# Altium schematic symbol library MCU.SchLib: 15 symbols
Pins are listed as number, name and electrical type; pins without a type are passive.

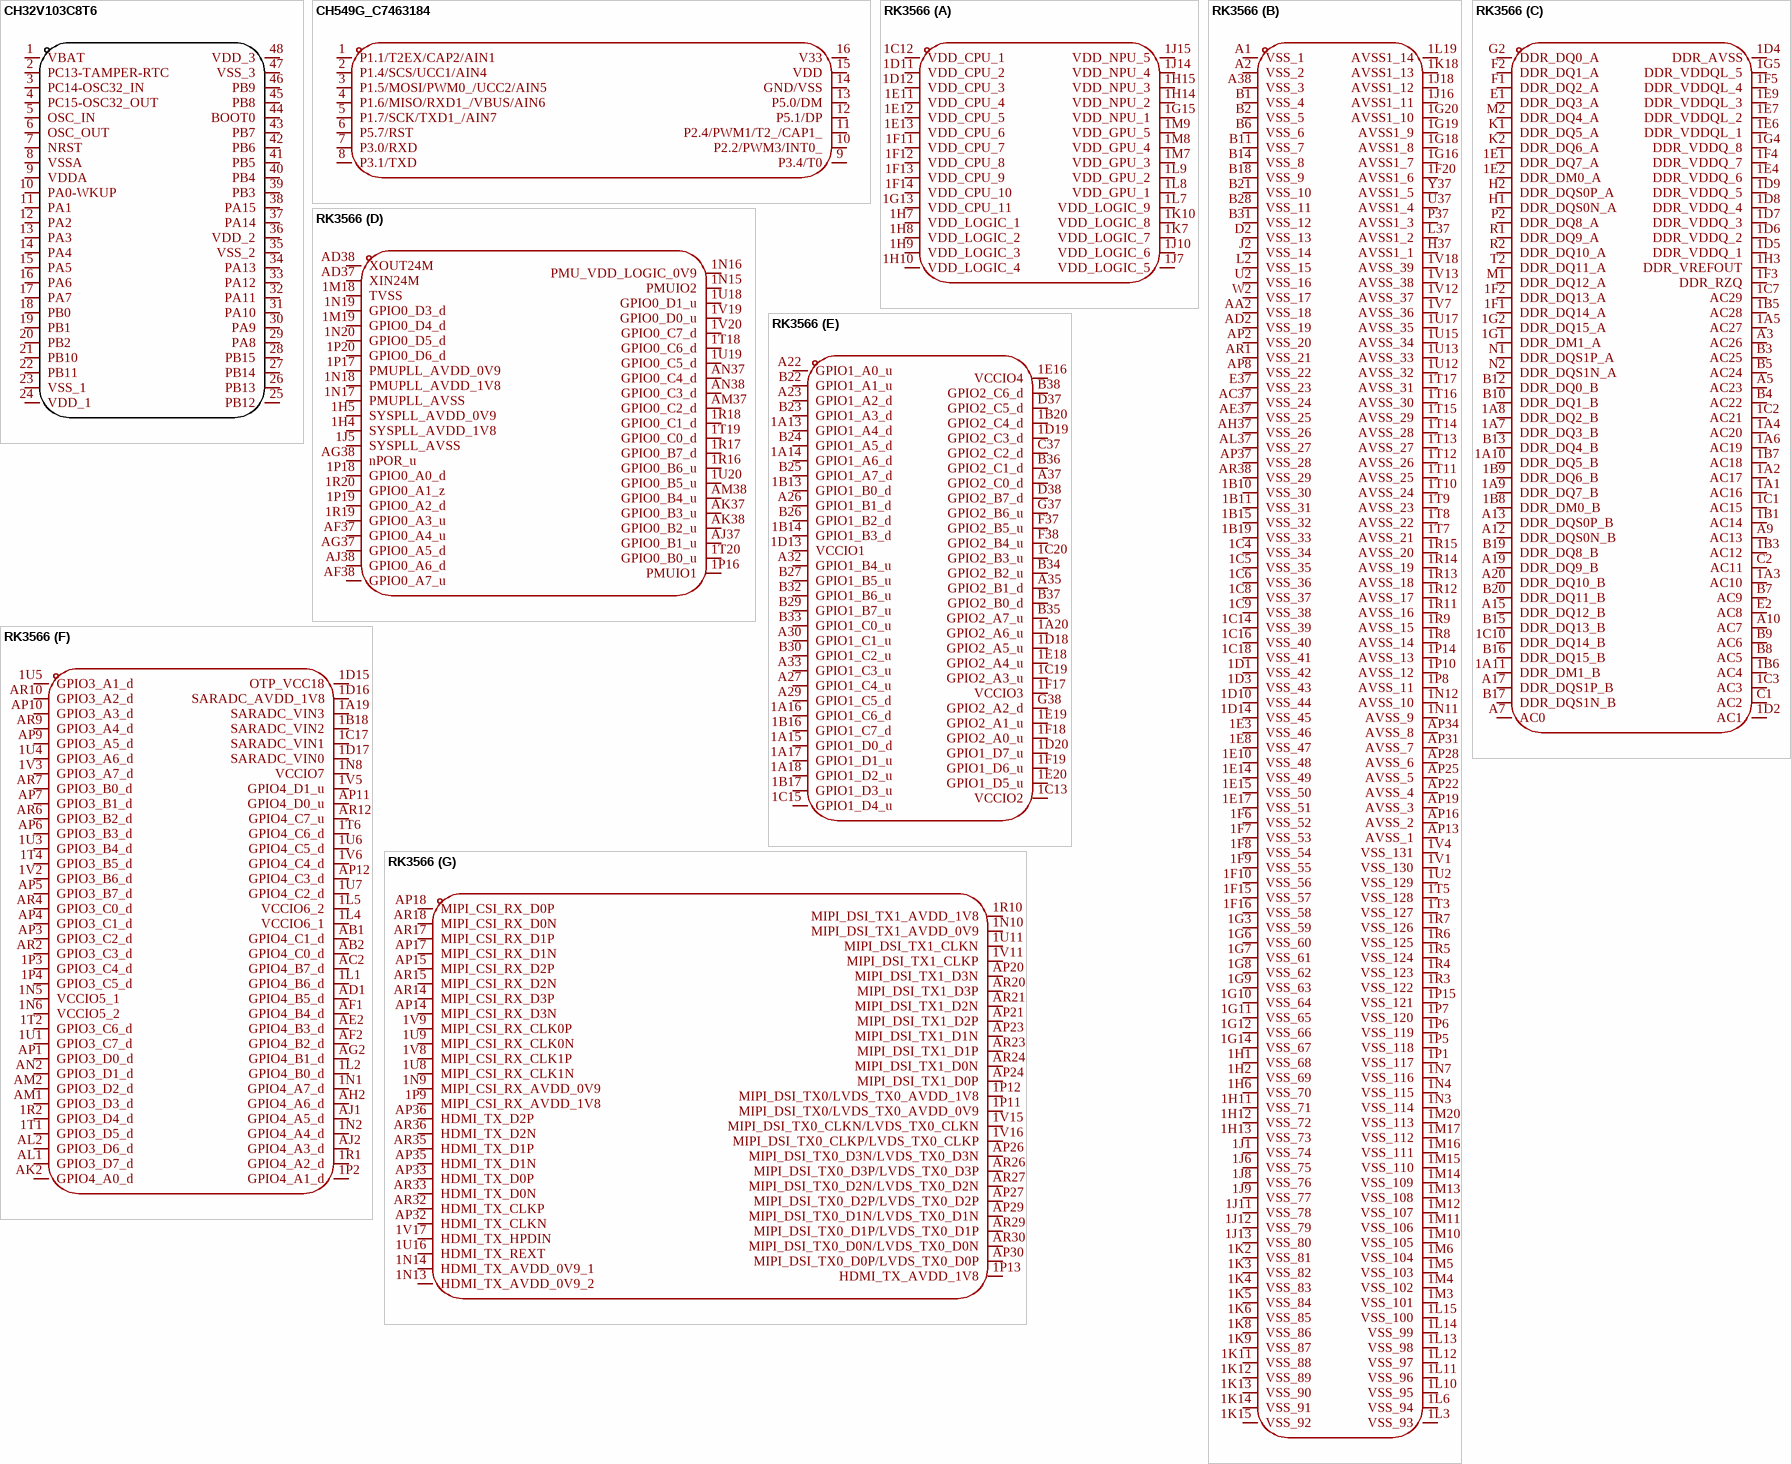
[diagram p0: symbols CH32V103C8T6 to RK3566]

## CH32V103C8T6
designator U??  (value not drawn)
Manufacturer: WCH(南京沁恒); Add into BOM: yes; CPU Core: RISC-V; CPU Maximum Speed: 80MHz; Operating Voltage Range: 2.7V~5.5V; Program Storage Size: 64KB; Program Memory Type: FLASH; RAM Size: 20KB; GPIO Ports Number: 37; ADC (Bit): 12bit; PWM (Bit): 16bit; 16Bit Timer: 4; UART/USART: 3; I2C: 2; Internal Oscillator: 有; Name: CH32V103C8T6; Symbol: CH32V103C8T6; Device: CH32V103C8T6; LCSC Part Name: CH32V103C8T6; Supplier Part: C2764428; Manufacturer Part: CH32V103C8T6; Supplier Footprint: LQFP-48(7x7); JLCPCB Part Class: Extended Part; Datasheet: https://atta.szlcsc.com/upload/public/pdf/source/20210707/C2832145_C97F3FA8145C3B839C9866ABB94A77A4.pdf; Supplier: LCSC; Convert to PCB: yes; EEPROM: -; DAC (Bit): -; 8Bit Timer: -; 32Bit Timer: -; CAN: -; I2S: -; SPI: 2; Universal Serial Bus: -; Internal Comparator: -; Peripheral/Function: -; communication protocol: -; Watchdog: -; Real-Time Clock: -; Infrared Data Association: -; Low-Voltage Detect: -; CCP Capture/Compare: -; Secure Digital Input and Output: -; Direct Memory Access: -; Operating Temperature Range: -40℃~+85℃
footprint LQFP-48_48P-L7.0-W7.0-P0.50-LS9.0-BL
3D model LQFP-48_L7.0-W7.0-H1.4-LS9.0-P0.50
pins: 1 VBAT, 2 PC13-TAMPER-RTC, 3 PC14-OSC32_IN, 4 PC15-OSC32_OUT, 5 OSC_IN, 6 OSC_OUT, 7 NRST, 8 VSSA, 9 VDDA, 10 PA0-WKUP, 11 PA1, 12 PA2, 13 PA3, 14 PA4, 15 PA5, 16 PA6, 17 PA7, 18 PB0, 19 PB1, 20 PB2, 21 PB10, 22 PB11, 23 VSS_1, 24 VDD_1, 25 PB12, 26 PB13, 27 PB14, 28 PB15, 29 PA8, 30 PA9, 31 PA10, 32 PA11, 33 PA12, 34 PA13, 35 VSS_2, 36 VDD_2, 37 PA14, 38 PA15, 39 PB3, 40 PB4, 41 PB5, 42 PB6, 43 PB7, 44 BOOT0, 45 PB8, 46 PB9, 47 VSS_3, 48 VDD_3

## CH549G_C7463184
designator U??, comment CH549G  (value not drawn)
Manufacturer: WCH(南京沁恒); Symbol: CH549G_C7463184; Add into BOM: yes; Device: CH549G_C7463184; LCSC Part Name: CH549G; Supplier Part: C7463184; Manufacturer Part: CH549G; Supplier Footprint: SOP-16; JLCPCB Part Class: Extended Part; Datasheet: https://atta.szlcsc.com/upload/public/pdf/source/20240813/D990C0E3D6C3BE994BFD0696EC2C7250.pdf; Supplier: LCSC; Convert to PCB: yes
footprint SOP-16_L9.9-W3.9-P1.27-LS6.0-BL
pins: 1 P1.1/T2EX/CAP2/AIN1, 2 P1.4/SCS/UCC1/AIN4, 3 P1.5/MOSI/PWM0_/UCC2/AIN5, 4 P1.6/MISO/RXD1_/VBUS/AIN6, 5 P1.7/SCK/TXD1_/AIN7, 6 P5.7/RST, 7 P3.0/RXD, 8 P3.1/TXD, 9 P3.4/T0, 10 P2.2/PWM3/INT0_, 11 P2.4/PWM1/T2_/CAP1_, 12 P5.1/DP, 13 P5.0/DM, 14 GND/VSS, 15 VDD, 16 V33

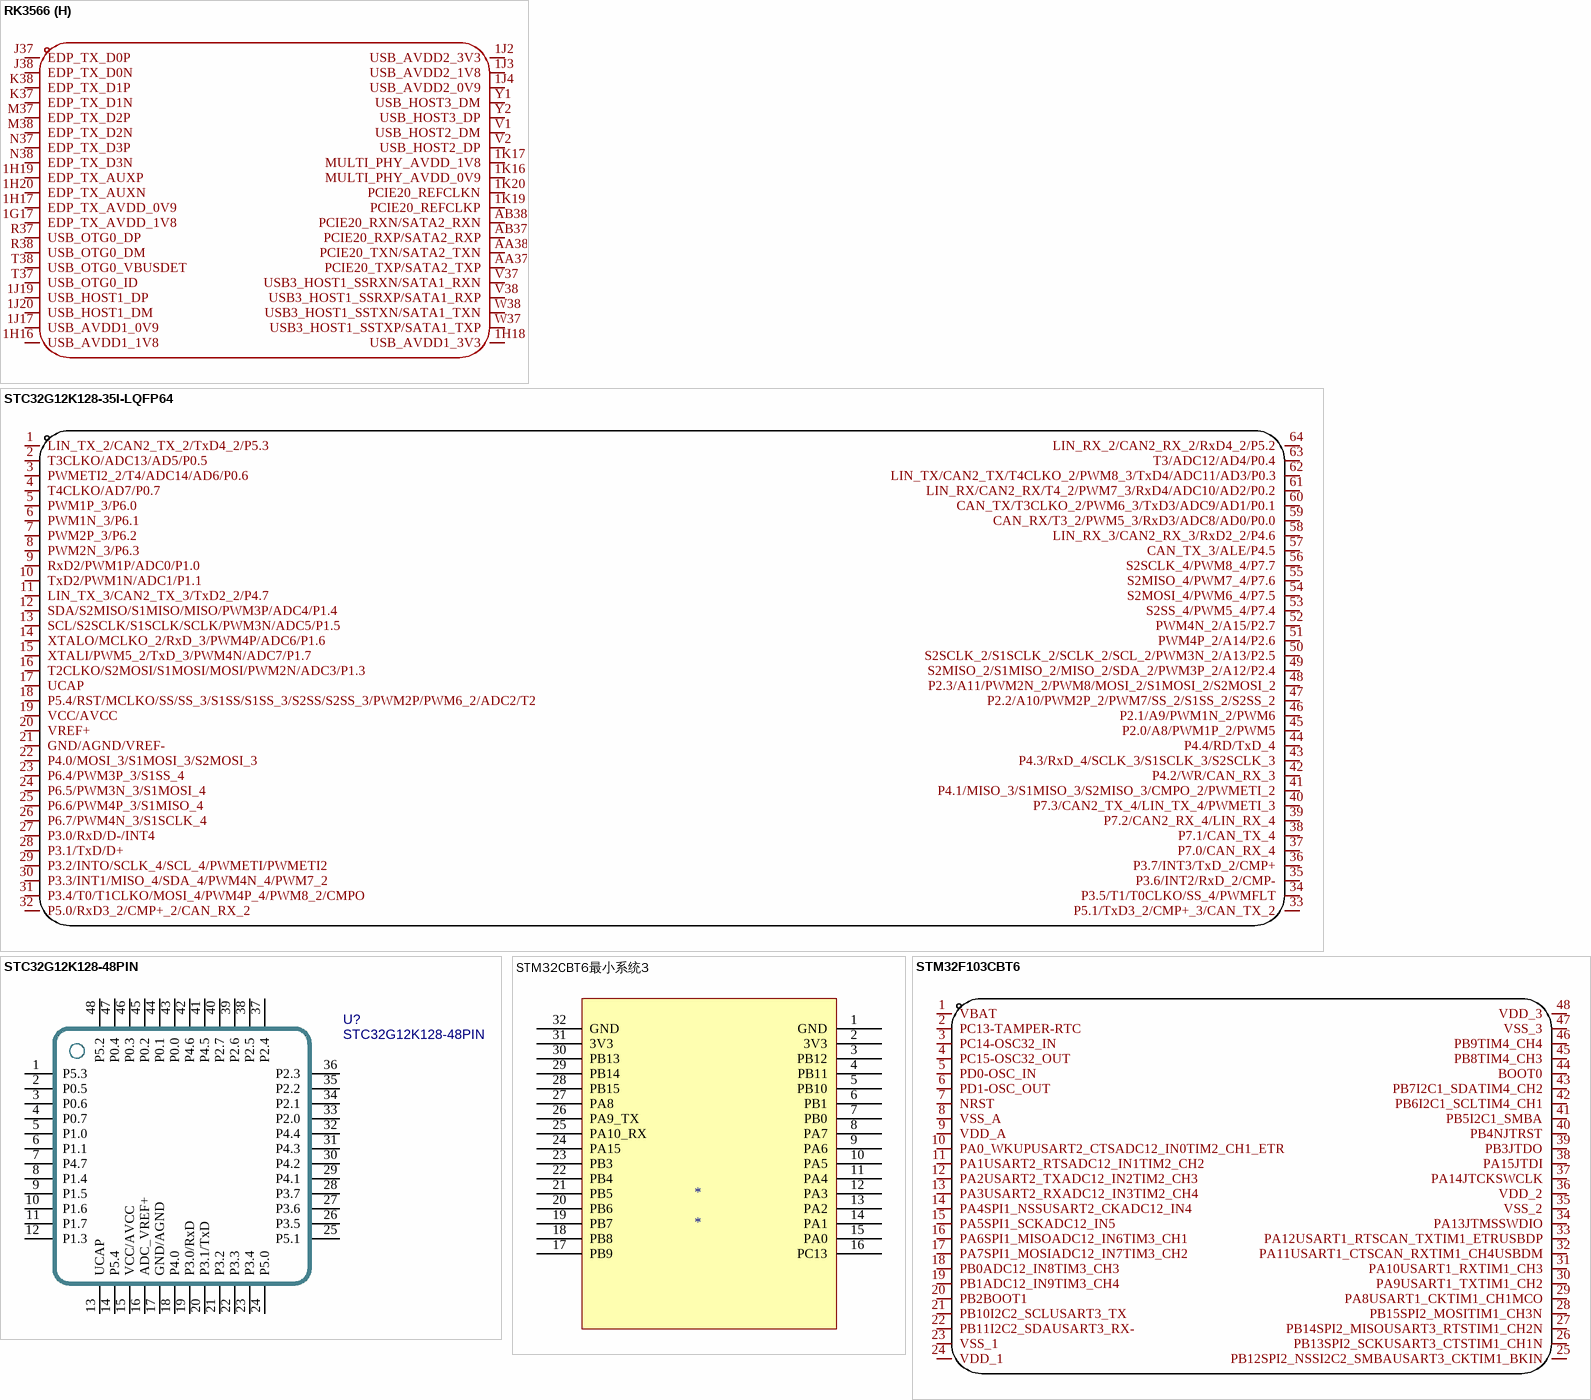
[diagram p1: symbols RK3566 to STM32F103CBT6]

## RK3566
designator U??  (value not drawn)
Manufacturer: Rockchip(瑞芯微); Add into BOM: yes; Symbol: RK3566; Device: RK3566; LCSC Part Name: RK3566; Supplier Part: C2943786; Manufacturer Part: RK3566; Supplier Footprint: BGA-565(15.5x14.4); JLCPCB Part Class: Extended Part; Datasheet: https://atta.szlcsc.com/upload/public/pdf/source/20240126/58C1D355804B22318A1D6A9C85EA3A92.pdf; Supplier: LCSC; Convert to PCB: yes
footprint BGA-565_L15.5-W14.4-P0.40_RK3566_1
3D model BGA-565_L15.5-W14.4-P0.40_RK3566_1
part A pins: 1C12 VDD_CPU_1, 1D11 VDD_CPU_2, 1D12 VDD_CPU_3, 1E11 VDD_CPU_4, 1E12 VDD_CPU_5, 1E13 VDD_CPU_6, 1F11 VDD_CPU_7, 1F12 VDD_CPU_8, 1F13 VDD_CPU_9, 1F14 VDD_CPU_10, 1G13 VDD_CPU_11, 1G15 VDD_NPU_1, 1H7 VDD_LOGIC_1, 1H8 VDD_LOGIC_2, 1H9 VDD_LOGIC_3, 1H10 VDD_LOGIC_4, 1H14 VDD_NPU_2, 1H15 VDD_NPU_3, 1J7 VDD_LOGIC_5, 1J10 VDD_LOGIC_6, 1J14 VDD_NPU_4, 1J15 VDD_NPU_5, 1K7 VDD_LOGIC_7, 1K10 VDD_LOGIC_8, 1L7 VDD_LOGIC_9, 1L8 VDD_GPU_1, 1L9 VDD_GPU_2, 1M7 VDD_GPU_3, 1M8 VDD_GPU_4, 1M9 VDD_GPU_5
part B pins: 1B10 VSS_30, 1B11 VSS_31, 1B15 VSS_32, 1B19 VSS_33, 1C4 VSS_34, 1C5 VSS_35, 1C6 VSS_36, 1C8 VSS_37, 1C9 VSS_38, 1C14 VSS_39, 1C16 VSS_40, 1C18 VSS_41, 1D1 VSS_42, 1D3 VSS_43, 1D10 VSS_44, 1D14 VSS_45, 1E3 VSS_46, 1E8 VSS_47, 1E10 VSS_48, 1E14 VSS_49, 1E15 VSS_50, 1E17 VSS_51, 1F6 VSS_52, 1F7 VSS_53, 1F8 VSS_54, 1F9 VSS_55, 1F10 VSS_56, 1F15 VSS_57, 1F16 VSS_58, 1F20 AVSS1_6, 1G3 VSS_59, 1G6 VSS_60, 1G7 VSS_61, 1G8 VSS_62, 1G9 VSS_63, 1G10 VSS_64, 1G11 VSS_65, 1G12 VSS_66, 1G14 VSS_67, 1G16 AVSS1_7, 1G18 AVSS1_8, 1G19 AVSS1_9, 1G20 AVSS1_10, 1H1 VSS_68, 1H2 VSS_69, 1H6 VSS_70, 1H11 VSS_71, 1H12 VSS_72, 1H13 VSS_73, 1J1 VSS_74, 1J6 VSS_75, 1J8 VSS_76, 1J9 VSS_77, 1J11 VSS_78, 1J12 VSS_79, 1J13 VSS_80, 1J16 AVSS1_11, 1J18 AVSS1_12, 1K2 VSS_81, 1K3 VSS_82, 1K4 VSS_83, 1K5 VSS_84, 1K6 VSS_85, 1K8 VSS_86, 1K9 VSS_87, 1K11 VSS_88, 1K12 VSS_89, 1K13 VSS_90, 1K14 VSS_91, 1K15 VSS_92, 1K18 AVSS1_13, 1L3 VSS_93, 1L6 VSS_94, 1L10 VSS_95, 1L11 VSS_96, 1L12 VSS_97, 1L13 VSS_98, 1L14 VSS_99, 1L15 VSS_100, 1L19 AVSS1_14, 1M3 VSS_101, 1M4 VSS_102, 1M5 VSS_103, 1M6 VSS_104, 1M10 VSS_105, 1M11 VSS_106, 1M12 VSS_107, 1M13 VSS_108, 1M14 VSS_109, 1M15 VSS_110, 1M16 VSS_111, 1M17 VSS_112, 1M20 VSS_113, 1N3 VSS_114, 1N4 VSS_115, 1N7 VSS_116, 1N11 AVSS_9, 1N12 AVSS_10, 1P1 VSS_117, 1P5 VSS_118, 1P6 VSS_119, 1P7 VSS_120, 1P8 AVSS_11, 1P10 AVSS_12, 1P14 AVSS_13, 1P15 VSS_121, 1R3 VSS_122, 1R4 VSS_123, 1R5 VSS_124, 1R6 VSS_125, 1R7 VSS_126, 1R8 AVSS_14, 1R9 AVSS_15, 1R11 AVSS_16, 1R12 AVSS_17, 1R13 AVSS_18, 1R14 AVSS_19, 1R15 AVSS_20, 1T3 VSS_127, 1T5 VSS_128, 1T7 AVSS_21, 1T8 AVSS_22, 1T9 AVSS_23, 1T10 AVSS_24, 1T11 AVSS_25, 1T12 AVSS_26, 1T13 AVSS_27, 1T14 AVSS_28, 1T15 AVSS_29, 1T16 AVSS_30, 1T17 AVSS_31, 1U2 VSS_129, 1U12 AVSS_32, 1U13 AVSS_33, 1U15 AVSS_34, 1U17 AVSS_35, 1V1 VSS_130, 1V4 VSS_131, 1V7 AVSS_36, 1V12 AVSS_37, 1V13 AVSS_38, 1V18 AVSS_39, A1 VSS_1, A2 VSS_2, A38 VSS_3, AA2 VSS_18, AC37 VSS_24, AD2 VSS_19, AE37 VSS_25, AH37 VSS_26, AL37 VSS_27, AP2 VSS_20, AP8 VSS_22, AP13 AVSS_1, AP16 AVSS_2, AP19 AVSS_3, AP22 AVSS_4, AP25 AVSS_5, AP28 AVSS_6, AP31 AVSS_7, AP34 AVSS_8, AP37 VSS_28, AR1 VSS_21, AR38 VSS_29, B1 VSS_4, B2 VSS_5, B6 VSS_6, B11 VSS_7, B14 VSS_8, B18 VSS_9, B21 VSS_10, B28 VSS_11, B31 VSS_12, D2 VSS_13, E37 VSS_23, H37 AVSS1_1, J2 VSS_14, L2 VSS_15, L37 AVSS1_2, P37 AVSS1_3, U2 VSS_16, U37 AVSS1_4, W2 VSS_17, Y37 AVSS1_5
part C pins: 1A1 AC16, 1A2 AC17, 1A3 AC10, 1A4 AC20, 1A5 AC27, 1A6 AC19, 1A7 DDR_DQ3_B, 1A8 DDR_DQ2_B, 1A9 DDR_DQ7_B, 1A10 DDR_DQ5_B, 1A11 DDR_DM1_B, 1B1 AC14, 1B3 AC12, 1B5 AC28, 1B6 AC4, 1B7 AC18, 1B8 DDR_DM0_B, 1B9 DDR_DQ6_B, 1C1 AC15, 1C2 AC21, 1C3 AC3, 1C7 AC29, 1C10 DDR_DQ14_B, 1D2 AC1, 1D4 DDR_AVSS, 1D5 DDR_VDDQ_1, 1D6 DDR_VDDQ_2, 1D7 DDR_VDDQ_3, 1D8 DDR_VDDQ_4, 1D9 DDR_VDDQ_5, 1E1 DDR_DQ7_A, 1E2 DDR_DM0_A, 1E4 DDR_VDDQ_6, 1E6 DDR_VDDQL_1, 1E7 DDR_VDDQL_2, 1E9 DDR_VDDQL_3, 1F1 DDR_DQ14_A, 1F2 DDR_DQ13_A, 1F3 DDR_RZQ, 1F4 DDR_VDDQ_7, 1F5 DDR_VDDQL_4, 1G1 DDR_DM1_A, 1G2 DDR_DQ15_A, 1G4 DDR_VDDQ_8, 1G5 DDR_VDDQL_5, 1H3 DDR_VREFOUT, A3 AC26, A5 AC23, A7 AC0, A9 AC13, A10 AC7, A12 DDR_DQS0N_B, A13 DDR_DQS0P_B, A15 DDR_DQ12_B, A17 DDR_DQS1P_B, A19 DDR_DQ9_B, A20 DDR_DQ10_B, B3 AC25, B4 AC22, B5 AC24, B7 AC9, B8 AC5, B9 AC6, B10 DDR_DQ1_B, B12 DDR_DQ0_B, B13 DDR_DQ4_B, B15 DDR_DQ13_B, B16 DDR_DQ15_B, B17 DDR_DQS1N_B, B19 DDR_DQ8_B, B20 DDR_DQ11_B, C1 AC2, C2 AC11, E1 DDR_DQ3_A, E2 AC8, F1 DDR_DQ2_A, F2 DDR_DQ1_A, G2 DDR_DQ0_A, H1 DDR_DQS0N_A, H2 DDR_DQS0P_A, K1 DDR_DQ5_A, K2 DDR_DQ6_A, M1 DDR_DQ12_A, M2 DDR_DQ4_A, N1 DDR_DQS1P_A, N2 DDR_DQS1N_A, P2 DDR_DQ8_A, R1 DDR_DQ9_A, R2 DDR_DQ10_A, T2 DDR_DQ11_A
part D pins: 1H4 SYSPLL_AVDD_1V8, 1H5 SYSPLL_AVDD_0V9, 1J5 SYSPLL_AVSS, 1M18 TVSS, 1M19 GPIO0_D4_d, 1N15 PMUIO2, 1N16 PMU_VDD_LOGIC_0V9, 1N17 PMUPLL_AVSS, 1N18 PMUPLL_AVDD_1V8, 1N19 GPIO0_D3_d, 1N20 GPIO0_D5_d, 1P16 PMUIO1, 1P17 PMUPLL_AVDD_0V9, 1P18 GPIO0_A0_d, 1P19 GPIO0_A2_d, 1P20 GPIO0_D6_d, 1R16 GPIO0_B6_u, 1R17 GPIO0_B7_d, 1R18 GPIO0_C1_d, 1R19 GPIO0_A3_u, 1R20 GPIO0_A1_z, 1T18 GPIO0_C6_d, 1T19 GPIO0_C0_d, 1T20 GPIO0_B0_u, 1U18 GPIO0_D1_u, 1U19 GPIO0_C5_d, 1U20 GPIO0_B5_u, 1V19 GPIO0_D0_u, 1V20 GPIO0_C7_d, AD37 XIN24M, AD38 XOUT24M, AF37 GPIO0_A4_u, AF38 GPIO0_A7_u, AG37 GPIO0_A5_d, AG38 nPOR_u, AJ37 GPIO0_B1_u, AJ38 GPIO0_A6_d, AK37 GPIO0_B3_u, AK38 GPIO0_B2_u, AM37 GPIO0_C2_d, AM38 GPIO0_B4_u, AN37 GPIO0_C4_d, AN38 GPIO0_C3_d
part E pins: 1A13 GPIO1_A4_d, 1A14 GPIO1_A6_d, 1A15 GPIO1_D0_d, 1A16 GPIO1_C6_d, 1A17 GPIO1_D1_u, 1A18 GPIO1_D2_u, 1A20 GPIO2_A6_u, 1B13 GPIO1_B0_d, 1B14 GPIO1_B3_d, 1B16 GPIO1_C7_d, 1B17 GPIO1_D3_u, 1B20 GPIO2_C4_d, 1C13 VCCIO2, 1C15 GPIO1_D4_u, 1C19 GPIO2_A3_u, 1C20 GPIO2_B3_u, 1D13 VCCIO1, 1D18 GPIO2_A5_u, 1D19 GPIO2_C3_d, 1D20 GPIO1_D7_u, 1E16 VCCIO4, 1E18 GPIO2_A4_u, 1E19 GPIO2_A1_u, 1E20 GPIO1_D5_u, 1F17 VCCIO3, 1F18 GPIO2_A0_u, 1F19 GPIO1_D6_u, A22 GPIO1_A0_u, A23 GPIO1_A2_d, A26 GPIO1_B1_d, A27 GPIO1_C4_u, A29 GPIO1_C5_d, A30 GPIO1_C1_u, A32 GPIO1_B4_u, A33 GPIO1_C3_u, A35 GPIO2_B1_d, A37 GPIO2_C0_d, B22 GPIO1_A1_u, B23 GPIO1_A3_d, B24 GPIO1_A5_d, B25 GPIO1_A7_d, B26 GPIO1_B2_d, B27 GPIO1_B5_u, B29 GPIO1_B7_u, B30 GPIO1_C2_u, B32 GPIO1_B6_u, B33 GPIO1_C0_u, B34 GPIO2_B2_u, B35 GPIO2_A7_u, B36 GPIO2_C1_d, B37 GPIO2_B0_d, B38 GPIO2_C6_d, C37 GPIO2_C2_d, D37 GPIO2_C5_d, D38 GPIO2_B7_d, F37 GPIO2_B5_u, F38 GPIO2_B4_u, G37 GPIO2_B6_u, G38 GPIO2_A2_d
part F pins: 1A19 SARADC_VIN3, 1B18 SARADC_VIN2, 1C17 SARADC_VIN1, 1D15 OTP_VCC18, 1D16 SARADC_AVDD_1V8, 1D17 SARADC_VIN0, 1L1 GPIO4_B6_d, 1L2 GPIO4_B0_d, 1L4 VCCIO6_1, 1L5 VCCIO6_2, 1N1 GPIO4_A7_d, 1N2 GPIO4_A4_d, 1N5 VCCIO5_1, 1N6 VCCIO5_2, 1N8 VCCIO7, 1P2 GPIO4_A1_d, 1P3 GPIO3_C4_d, 1P4 GPIO3_C5_d, 1R1 GPIO4_A2_d, 1R2 GPIO3_D4_d, 1T1 GPIO3_D5_d, 1T2 GPIO3_C6_d, 1T4 GPIO3_B5_d, 1T6 GPIO4_C6_d, 1U1 GPIO3_C7_d, 1U3 GPIO3_B4_d, 1U4 GPIO3_A6_d, 1U5 GPIO3_A1_d, 1U6 GPIO4_C5_d, 1U7 GPIO4_C2_d, 1V2 GPIO3_B6_d, 1V3 GPIO3_A7_d, 1V5 GPIO4_D1_u, 1V6 GPIO4_C4_d, AB1 GPIO4_C1_d, AB2 GPIO4_C0_d, AC2 GPIO4_B7_d, AD1 GPIO4_B5_d, AE2 GPIO4_B3_d, AF1 GPIO4_B4_d, AF2 GPIO4_B2_d, AG2 GPIO4_B1_d, AH2 GPIO4_A6_d, AJ1 GPIO4_A5_d, AJ2 GPIO4_A3_d, AK2 GPIO4_A0_d, AL1 GPIO3_D7_d, AL2 GPIO3_D6_d, AM1 GPIO3_D3_d, AM2 GPIO3_D2_d, AN2 GPIO3_D1_d, AP1 GPIO3_D0_d, AP3 GPIO3_C2_d, AP4 GPIO3_C1_d, AP5 GPIO3_B7_d, AP6 GPIO3_B3_d, AP7 GPIO3_B1_d, AP9 GPIO3_A5_d, AP10 GPIO3_A3_d, AP11 GPIO4_D0_u, AP12 GPIO4_C3_d, AR2 GPIO3_C3_d, AR4 GPIO3_C0_d, AR6 GPIO3_B2_d, AR7 GPIO3_B0_d, AR9 GPIO3_A4_d, AR10 GPIO3_A2_d, AR12 GPIO4_C7_u
part G pins: 1N9 MIPI_CSI_RX_AVDD_0V9, 1N10 MIPI_DSI_TX1_AVDD_0V9, 1N13 HDMI_TX_AVDD_0V9_2, 1N14 HDMI_TX_AVDD_0V9_1, 1P9 MIPI_CSI_RX_AVDD_1V8, 1P11 MIPI_DSI_TX0/LVDS_TX0_AVDD_0V9, 1P12 MIPI_DSI_TX0/LVDS_TX0_AVDD_1V8, 1P13 HDMI_TX_AVDD_1V8, 1R10 MIPI_DSI_TX1_AVDD_1V8, 1U8 MIPI_CSI_RX_CLK1N, 1U9 MIPI_CSI_RX_CLK0N, 1U11 MIPI_DSI_TX1_CLKN, 1U16 HDMI_TX_REXT, 1V8 MIPI_CSI_RX_CLK1P, 1V9 MIPI_CSI_RX_CLK0P, 1V11 MIPI_DSI_TX1_CLKP, 1V15 MIPI_DSI_TX0_CLKN/LVDS_TX0_CLKN, 1V16 MIPI_DSI_TX0_CLKP/LVDS_TX0_CLKP, 1V17 HDMI_TX_HPDIN, AP14 MIPI_CSI_RX_D3N, AP15 MIPI_CSI_RX_D2P, AP17 MIPI_CSI_RX_D1N, AP18 MIPI_CSI_RX_D0P, AP20 MIPI_DSI_TX1_D3N, AP21 MIPI_DSI_TX1_D2P, AP23 MIPI_DSI_TX1_D1N, AP24 MIPI_DSI_TX1_D0P, AP26 MIPI_DSI_TX0_D3N/LVDS_TX0_D3N, AP27 MIPI_DSI_TX0_D2P/LVDS_TX0_D2P, AP29 MIPI_DSI_TX0_D1N/LVDS_TX0_D1N, AP30 MIPI_DSI_TX0_D0P/LVDS_TX0_D0P, AP32 HDMI_TX_CLKN, AP33 HDMI_TX_D0P, AP35 HDMI_TX_D1N, AP36 HDMI_TX_D2P, AR14 MIPI_CSI_RX_D3P, AR15 MIPI_CSI_RX_D2N, AR17 MIPI_CSI_RX_D1P, AR18 MIPI_CSI_RX_D0N, AR20 MIPI_DSI_TX1_D3P, AR21 MIPI_DSI_TX1_D2N, AR23 MIPI_DSI_TX1_D1P, AR24 MIPI_DSI_TX1_D0N, AR26 MIPI_DSI_TX0_D3P/LVDS_TX0_D3P, AR27 MIPI_DSI_TX0_D2N/LVDS_TX0_D2N, AR29 MIPI_DSI_TX0_D1P/LVDS_TX0_D1P, AR30 MIPI_DSI_TX0_D0N/LVDS_TX0_D0N, AR32 HDMI_TX_CLKP, AR33 HDMI_TX_D0N, AR35 HDMI_TX_D1P, AR36 HDMI_TX_D2N
part H pins: 1G17 EDP_TX_AVDD_1V8, 1H16 USB_AVDD1_1V8, 1H17 EDP_TX_AVDD_0V9, 1H18 USB_AVDD1_3V3, 1H19 EDP_TX_AUXP, 1H20 EDP_TX_AUXN, 1J2 USB_AVDD2_3V3, 1J3 USB_AVDD2_1V8, 1J4 USB_AVDD2_0V9, 1J17 USB_AVDD1_0V9, 1J19 USB_HOST1_DP, 1J20 USB_HOST1_DM, 1K16 MULTI_PHY_AVDD_0V9, 1K17 MULTI_PHY_AVDD_1V8, 1K19 PCIE20_REFCLKP, 1K20 PCIE20_REFCLKN, AA37 PCIE20_TXP/SATA2_TXP, AA38 PCIE20_TXN/SATA2_TXN, AB37 PCIE20_RXP/SATA2_RXP, AB38 PCIE20_RXN/SATA2_RXN, J37 EDP_TX_D0P, J38 EDP_TX_D0N, K37 EDP_TX_D1N, K38 EDP_TX_D1P, M37 EDP_TX_D2P, M38 EDP_TX_D2N, N37 EDP_TX_D3P, N38 EDP_TX_D3N, R37 USB_OTG0_DP, R38 USB_OTG0_DM, T37 USB_OTG0_ID, T38 USB_OTG0_VBUSDET, V1 USB_HOST2_DM, V2 USB_HOST2_DP, V37 USB3_HOST1_SSRXN/SATA1_RXN, V38 USB3_HOST1_SSRXP/SATA1_RXP, W37 USB3_HOST1_SSTXP/SATA1_TXP, W38 USB3_HOST1_SSTXN/SATA1_TXN, Y1 USB_HOST3_DM, Y2 USB_HOST3_DP

## STC32G12K128-35I-LQFP64
designator U??  (value not drawn)
Manufacturer: STC(宏晶); Add into BOM: yes; Name: STC32G12K128-35I-LQFP64; Symbol: STC32G12K128-35I-LQFP64; Device: STC32G12K128-35I-LQFP64; LCSC Part Name: STC32G12K128-35I-LQFP64; Supplier Part: C5210761; Manufacturer Part: STC32G12K128-35I-LQFP64; Supplier Footprint: LQFP-64; JLCPCB Part Class: Extended Part; Datasheet: https://atta.szlcsc.com/upload/public/pdf/source/20230914/AA8E7D278420EC7FE3821FDFD9AB7FC5.pdf; Supplier: LCSC; Convert to PCB: yes
footprint LQFP-64_L10.0-W10.0-P0.50-LS12.0-BL
3D model LQFP-64_L10.0-W10.0-H1.4-LS12.0-P0.50
pins: 1 LIN_TX_2/CAN2_TX_2/TxD4_2/P5.3, 2 T3CLKO/ADC13/AD5/P0.5, 3 PWMETI2_2/T4/ADC14/AD6/P0.6, 4 T4CLKO/AD7/P0.7, 5 PWM1P_3/P6.0, 6 PWM1N_3/P6.1, 7 PWM2P_3/P6.2, 8 PWM2N_3/P6.3, 9 RxD2/PWM1P/ADC0/P1.0, 10 TxD2/PWM1N/ADC1/P1.1, 11 LIN_TX_3/CAN2_TX_3/TxD2_2/P4.7, 12 SDA/S2MISO/S1MISO/MISO/PWM3P/ADC4/P1.4, 13 SCL/S2SCLK/S1SCLK/SCLK/PWM3N/ADC5/P1.5, 14 XTALO/MCLKO_2/RxD_3/PWM4P/ADC6/P1.6, 15 XTALI/PWM5_2/TxD_3/PWM4N/ADC7/P1.7, 16 T2CLKO/S2MOSI/S1MOSI/MOSI/PWM2N/ADC3/P1.3, 17 UCAP, 18 P5.4/RST/MCLKO/SS/SS_3/S1SS/S1SS_3/S2SS/S2SS_3/PWM2P/PWM6_2/ADC2/T2, 19 VCC/AVCC, 20 VREF+, 21 GND/AGND/VREF-, 22 P4.0/MOSI_3/S1MOSI_3/S2MOSI_3, 23 P6.4/PWM3P_3/S1SS_4, 24 P6.5/PWM3N_3/S1MOSI_4, 25 P6.6/PWM4P_3/S1MISO_4, 26 P6.7/PWM4N_3/S1SCLK_4, 27 P3.0/RxD/D-/INT4, 28 P3.1/TxD/D+, 29 P3.2/INTO/SCLK_4/SCL_4/PWMETI/PWMETI2, 30 P3.3/INT1/MISO_4/SDA_4/PWM4N_4/PWM7_2, 31 P3.4/T0/T1CLKO/MOSI_4/PWM4P_4/PWM8_2/CMPO, 32 P5.0/RxD3_2/CMP+_2/CAN_RX_2, 33 P5.1/TxD3_2/CMP+_3/CAN_TX_2, 34 P3.5/T1/T0CLKO/SS_4/PWMFLT, 35 P3.6/INT2/RxD_2/CMP-, 36 P3.7/INT3/TxD_2/CMP+, 37 P7.0/CAN_RX_4, 38 P7.1/CAN_TX_4, 39 P7.2/CAN2_RX_4/LIN_RX_4, 40 P7.3/CAN2_TX_4/LIN_TX_4/PWMETI_3, 41 P4.1/MISO_3/S1MISO_3/S2MISO_3/CMPO_2/PWMETI_2, 42 P4.2/WR/CAN_RX_3, 43 P4.3/RxD_4/SCLK_3/S1SCLK_3/S2SCLK_3, 44 P4.4/RD/TxD_4, 45 P2.0/A8/PWM1P_2/PWM5, 46 P2.1/A9/PWM1N_2/PWM6, 47 P2.2/A10/PWM2P_2/PWM7/SS_2/S1SS_2/S2SS_2, 48 P2.3/A11/PWM2N_2/PWM8/MOSI_2/S1MOSI_2/S2MOSI_2, 49 S2MISO_2/S1MISO_2/MISO_2/SDA_2/PWM3P_2/A12/P2.4, 50 S2SCLK_2/S1SCLK_2/SCLK_2/SCL_2/PWM3N_2/A13/P2.5, 51 PWM4P_2/A14/P2.6, 52 PWM4N_2/A15/P2.7, 53 S2SS_4/PWM5_4/P7.4, 54 S2MOSI_4/PWM6_4/P7.5, 55 S2MISO_4/PWM7_4/P7.6, 56 S2SCLK_4/PWM8_4/P7.7, 57 CAN_TX_3/ALE/P4.5, 58 LIN_RX_3/CAN2_RX_3/RxD2_2/P4.6, 59 CAN_RX/T3_2/PWM5_3/RxD3/ADC8/AD0/P0.0, 60 CAN_TX/T3CLKO_2/PWM6_3/TxD3/ADC9/AD1/P0.1, 61 LIN_RX/CAN2_RX/T4_2/PWM7_3/RxD4/ADC10/AD2/P0.2, 62 LIN_TX/CAN2_TX/T4CLKO_2/PWM8_3/TxD4/ADC11/AD3/P0.3, 63 T3/ADC12/AD4/P0.4, 64 LIN_RX_2/CAN2_RX_2/RxD4_2/P5.2

## STC32G12K128-48PIN
designator U?
STC32G12K128 LQFP48
footprint LQFP48_L (Thin QFP, 48-Leads, Body 7x7mm, Pitch 0.5mm, IPC High Density)
footprint LQFP48_M (Thin QFP, 48-Leads, Body 7x7mm, Pitch 0.5mm, IPC Low Density)
footprint LQFP48_N (Thin QFP, 48-Leads, Body 7x7mm, Pitch 0.5mm, IPC Medium Density)
footprint LQFP-48_L7.0-W7.0-P0.50-LS9.0-BL
pins: 1 P5.3, 2 P0.5, 3 P0.6, 4 P0.7, 5 P1.0, 6 P1.1, 7 P4.7, 8 P1.4, 9 P1.5, 10 P1.6, 11 P1.7, 12 P1.3, 13 UCAP, 14 P5.4, 15 VCC/AVCC, 16 ADC_VREF+, 17 GND/AGND, 18 P4.0, 19 P3.0/RxD, 20 P3.1/TxD, 21 P3.2, 22 P3.3, 23 P3.4, 24 P5.0, 25 P5.1, 26 P3.5, 27 P3.6, 28 P3.7, 29 P4.1, 30 P4.2, 31 P4.3, 32 P4.4, 33 P2.0, 34 P2.1, 35 P2.2, 36 P2.3, 37 P2.4, 38 P2.5, 39 P2.6, 40 P2.7, 41 P4.5, 42 P4.6, 43 P0.0, 44 P0.1, 45 P0.2, 46 P0.3, 47 P0.4, 48 P5.2

## STM32CBT6最小系统3
designator *
footprint stm32最小系统板_电赛
footprint STM32最小系统3
pins: 1 GND, 2 3V3, 3 PB12, 4 PB11, 5 PB10, 6 PB1, 7 PB0, 8 PA7, 9 PA6, 10 PA5, 11 PA4, 12 PA3, 13 PA2, 14 PA1, 15 PA0, 16 PC13, 17 PB9, 18 PB8, 19 PB7, 20 PB6, 21 PB5, 22 PB4, 23 PB3, 24 PA15, 25 PA10_RX, 26 PA9_TX, 27 PA8, 28 PB15, 29 PB14, 30 PB13, 31 3V3, 32 GND

## STM32F103CBT6
designator ?  (value not drawn)
Designer: U?; Symbol: STM32F103CBT6; Device: STM32F103CBT6
footprint LQFP-48_L7.0-W7.0-P0.50-LS9.0-BL
pins: 1 VBAT, 2 PC13-TAMPER-RTC, 3 PC14-OSC32_IN, 4 PC15-OSC32_OUT, 5 PD0-OSC_IN, 6 PD1-OSC_OUT, 7 NRST, 8 VSS_A, 9 VDD_A, 10 PA0_WKUPUSART2_CTSADC12_IN0TIM2_CH1_ETR, 11 PA1USART2_RTSADC12_IN1TIM2_CH2, 12 PA2USART2_TXADC12_IN2TIM2_CH3, 13 PA3USART2_RXADC12_IN3TIM2_CH4, 14 PA4SPI1_NSSUSART2_CKADC12_IN4, 15 PA5SPI1_SCKADC12_IN5, 16 PA6SPI1_MISOADC12_IN6TIM3_CH1, 17 PA7SPI1_MOSIADC12_IN7TIM3_CH2, 18 PB0ADC12_IN8TIM3_CH3, 19 PB1ADC12_IN9TIM3_CH4, 20 PB2BOOT1, 21 PB10I2C2_SCLUSART3_TX, 22 PB11I2C2_SDAUSART3_RX-, 23 VSS_1, 24 VDD_1, 25 PB12SPI2_NSSI2C2_SMBAUSART3_CKTIM1_BKIN, 26 PB13SPI2_SCKUSART3_CTSTIM1_CH1N, 27 PB14SPI2_MISOUSART3_RTSTIM1_CH2N, 28 PB15SPI2_MOSITIM1_CH3N, 29 PA8USART1_CKTIM1_CH1MCO, 30 PA9USART1_TXTIM1_CH2, 31 PA10USART1_RXTIM1_CH3, 32 PA11USART1_CTSCAN_RXTIM1_CH4USBDM, 33 PA12USART1_RTSCAN_TXTIM1_ETRUSBDP, 34 PA13JTMSSWDIO, 35 VSS_2, 36 VDD_2, 37 PA14JTCKSWCLK, 38 PA15JTDI, 39 PB3JTDO, 40 PB4NJTRST, 41 PB5I2C1_SMBA, 42 PB6I2C1_SCLTIM4_CH1, 43 PB7I2C1_SDATIM4_CH2, 44 BOOT0, 45 PB8TIM4_CH3, 46 PB9TIM4_CH4, 47 VSS_3, 48 VDD_3

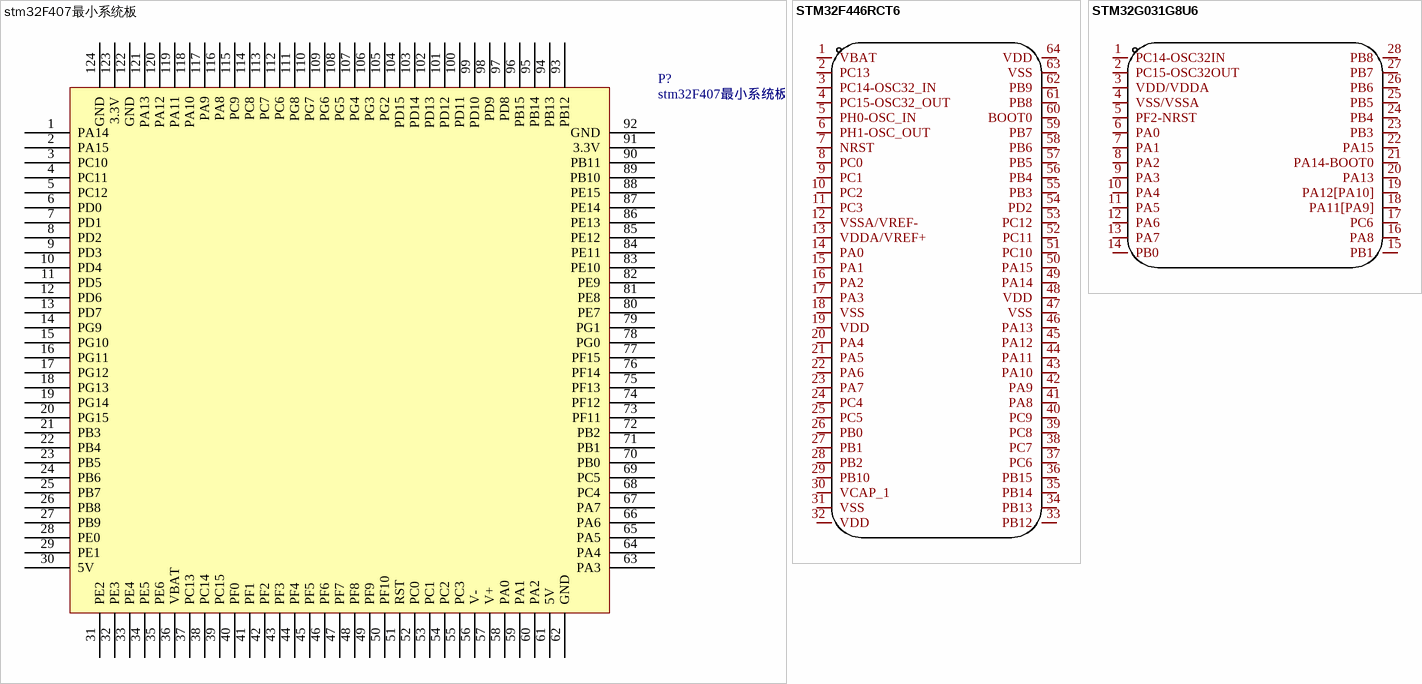
[diagram p2: symbols stm32F407最小系统板 to STM32G031G8U6]

## stm32F407最小系统板
designator P?
footprint stm32最小系统板_电赛
footprint stm32最小系统板 - duplicate
pins: 1 PA14, 2 PA15, 3 PC10, 4 PC11, 5 PC12, 6 PD0, 7 PD1, 8 PD2, 9 PD3, 10 PD4, 11 PD5, 12 PD6, 13 PD7, 14 PG9, 15 PG10, 16 PG11, 17 PG12, 18 PG13, 19 PG14, 20 PG15, 21 PB3, 22 PB4, 23 PB5, 24 PB6, 25 PB7, 26 PB8, 27 PB9, 28 PE0, 29 PE1, 30 5V, 31 PE2, 32 PE3, 33 PE4, 34 PE5, 35 PE6, 36 VBAT, 37 PC13, 38 PC14, 39 PC15, 40 PF0, 41 PF1, 42 PF2, 43 PF3, 44 PF4, 45 PF5, 46 PF6, 47 PF7, 48 PF8, 49 PF9, 50 PF10, 51 RST, 52 PC0, 53 PC1, 54 PC2, 55 PC3, 56 V-, 57 V+, 58 PA0, 59 PA1, 60 PA2, 61 5V, 62 GND, 63 PA3, 64 PA4, 65 PA5, 66 PA6, 67 PA7, 68 PC4, 69 PC5, 70 PB0, 71 PB1, 72 PB2, 73 PF11, 74 PF12, 75 PF13, 76 PF14, 77 PF15, 78 PG0, 79 PG1, 80 PE7, 81 PE8, 82 PE9, 83 PE10, 84 PE11, 85 PE12, 86 PE13, 87 PE14, 88 PE15, 89 PB10, 90 PB11, 91 3.3V, 92 GND, 93 PB12, 94 PB13, 95 PB14, 96 PB15, 97 PD8, 98 PD9, 99 PD10, 100 PD11, 101 PD12, 102 PD13, 103 PD14, 104 PD15, 105 PG2, 106 PG3, 107 PG4, 108 PG5, 109 PG6, 110 PG7, 111 PG8, 112 PC6, 113 PC7, 114 PC8, 115 PC9, 116 PA8, 117 PA9, 118 PA10, 119 PA11, 120 PA12, 121 PA13, 122 GND, 123 3.3V, 124 GND

## STM32F446RCT6
designator U??  (value not drawn)
Manufacturer: ST(意法半导体); Add into BOM: yes; CPU Core: CM4; Program Storage Size: 256KB; RAM Size: 128KB; GPIO Ports Number: 50; Operating Voltage Range: 1.7V~3.6V; CPU Maximum Speed: 180MHz; Program Memory Type: FLASH; ADC (Bit): 12bit; Peripheral/Function: PWM；PWM；低电压检测; Internal Oscillator: 有; Symbol: STM32F446RCT6; Device: STM32F446RCT6; LCSC Part Name: STM32F446RCT6; Supplier Part: C915971; Manufacturer Part: STM32F446RCT6; Supplier Footprint: LQFP-64(10x10); JLCPCB Part Class: Extended Part; Datasheet: https://atta.szlcsc.com/upload/public/pdf/source/20210121/C915971_ABBF09E4A55E270844E1180808A5810D.pdf; Supplier: LCSC; Convert to PCB: yes; Operating Temperature Range: -40℃~+85℃; DAC (Bit): 12bit; PWM (Bit): -; Universal Serial Bus: -; Internal Comparator: -; communication protocol: -; Watchdog: -; Real-Time Clock: -; Infrared Data Association: -; Low-Voltage Detect: -; CCP Capture/Compare: -; Secure Digital Input and Output: -; Direct Memory Access: -
footprint LQFP-64_L10.0-W10.0-P0.50-LS12.0-BL
pins: 1 VBAT, 2 PC13, 3 PC14-OSC32_IN, 4 PC15-OSC32_OUT, 5 PH0-OSC_IN, 6 PH1-OSC_OUT, 7 NRST, 8 PC0, 9 PC1, 10 PC2, 11 PC3, 12 VSSA/VREF-, 13 VDDA/VREF+, 14 PA0, 15 PA1, 16 PA2, 17 PA3, 18 VSS, 19 VDD, 20 PA4, 21 PA5, 22 PA6, 23 PA7, 24 PC4, 25 PC5, 26 PB0, 27 PB1, 28 PB2, 29 PB10, 30 VCAP_1, 31 VSS, 32 VDD, 33 PB12, 34 PB13, 35 PB14, 36 PB15, 37 PC6, 38 PC7, 39 PC8, 40 PC9, 41 PA8, 42 PA9, 43 PA10, 44 PA11, 45 PA12, 46 PA13, 47 VSS, 48 VDD, 49 PA14, 50 PA15, 51 PC10, 52 PC11, 53 PC12, 54 PD2, 55 PB3, 56 PB4, 57 PB5, 58 PB6, 59 PB7, 60 BOOT0, 61 PB8, 62 PB9, 63 VSS, 64 VDD

## STM32G031G8U6
designator U??  (value not drawn)
Manufacturer: ST(意法半导体); Add into BOM: yes; CPU Core: ARM-M系列; CPU Maximum Speed: 64MHz; Operating Voltage Range: 1.7V~3.6V; Program Storage Size: 64KB; Program Memory Type: FLASH; GPIO Ports Number: 26; ADC (Bit): 12bit; Watchdog: 有; Name: STM32G031G8U6; Symbol: STM32G031G8U6; Device: STM32G031G8U6; LCSC Part Name: STM32G031G8U6; Supplier Part: C432211; Manufacturer Part: STM32G031G8U6; Supplier Footprint: UFQFPN-28(4x4); JLCPCB Part Class: Extended Part; Datasheet: https://atta.szlcsc.com/upload/public/pdf/source/20190927/C432211_623EEFA1D407096BEEBF7364175DF17E.pdf; Supplier: LCSC; Convert to PCB: yes; RAM Size: -; EEPROM: -; DAC (Bit): -; PWM (Bit): -; Universal Serial Bus: -; Internal Comparator: -; communication protocol: -; Real-Time Clock: -; Infrared Data Association: 有; Low-Voltage Detect: 有; CCP Capture/Compare: -; Secure Digital Input and Output: -; Direct Memory Access: 有; Internal Oscillator: 有; Operating Temperature Range: -40℃~+85℃
footprint UFQFPN-28_L4.0-W4.0-P0.50-BL
3D model UFQFPN-28_L4.0-W4.0-H0.6-P0.50
pins: 1 PC14-OSC32IN, 2 PC15-OSC32OUT, 3 VDD/VDDA, 4 VSS/VSSA, 5 PF2-NRST, 6 PA0, 7 PA1, 8 PA2, 9 PA3, 10 PA4, 11 PA5, 12 PA6, 13 PA7, 14 PB0, 15 PB1, 16 PA8, 17 PC6, 18 PA11[PA9], 19 PA12[PA10], 20 PA13, 21 PA14-BOOT0, 22 PA15, 23 PB3, 24 PB4, 25 PB5, 26 PB6, 27 PB7, 28 PB8

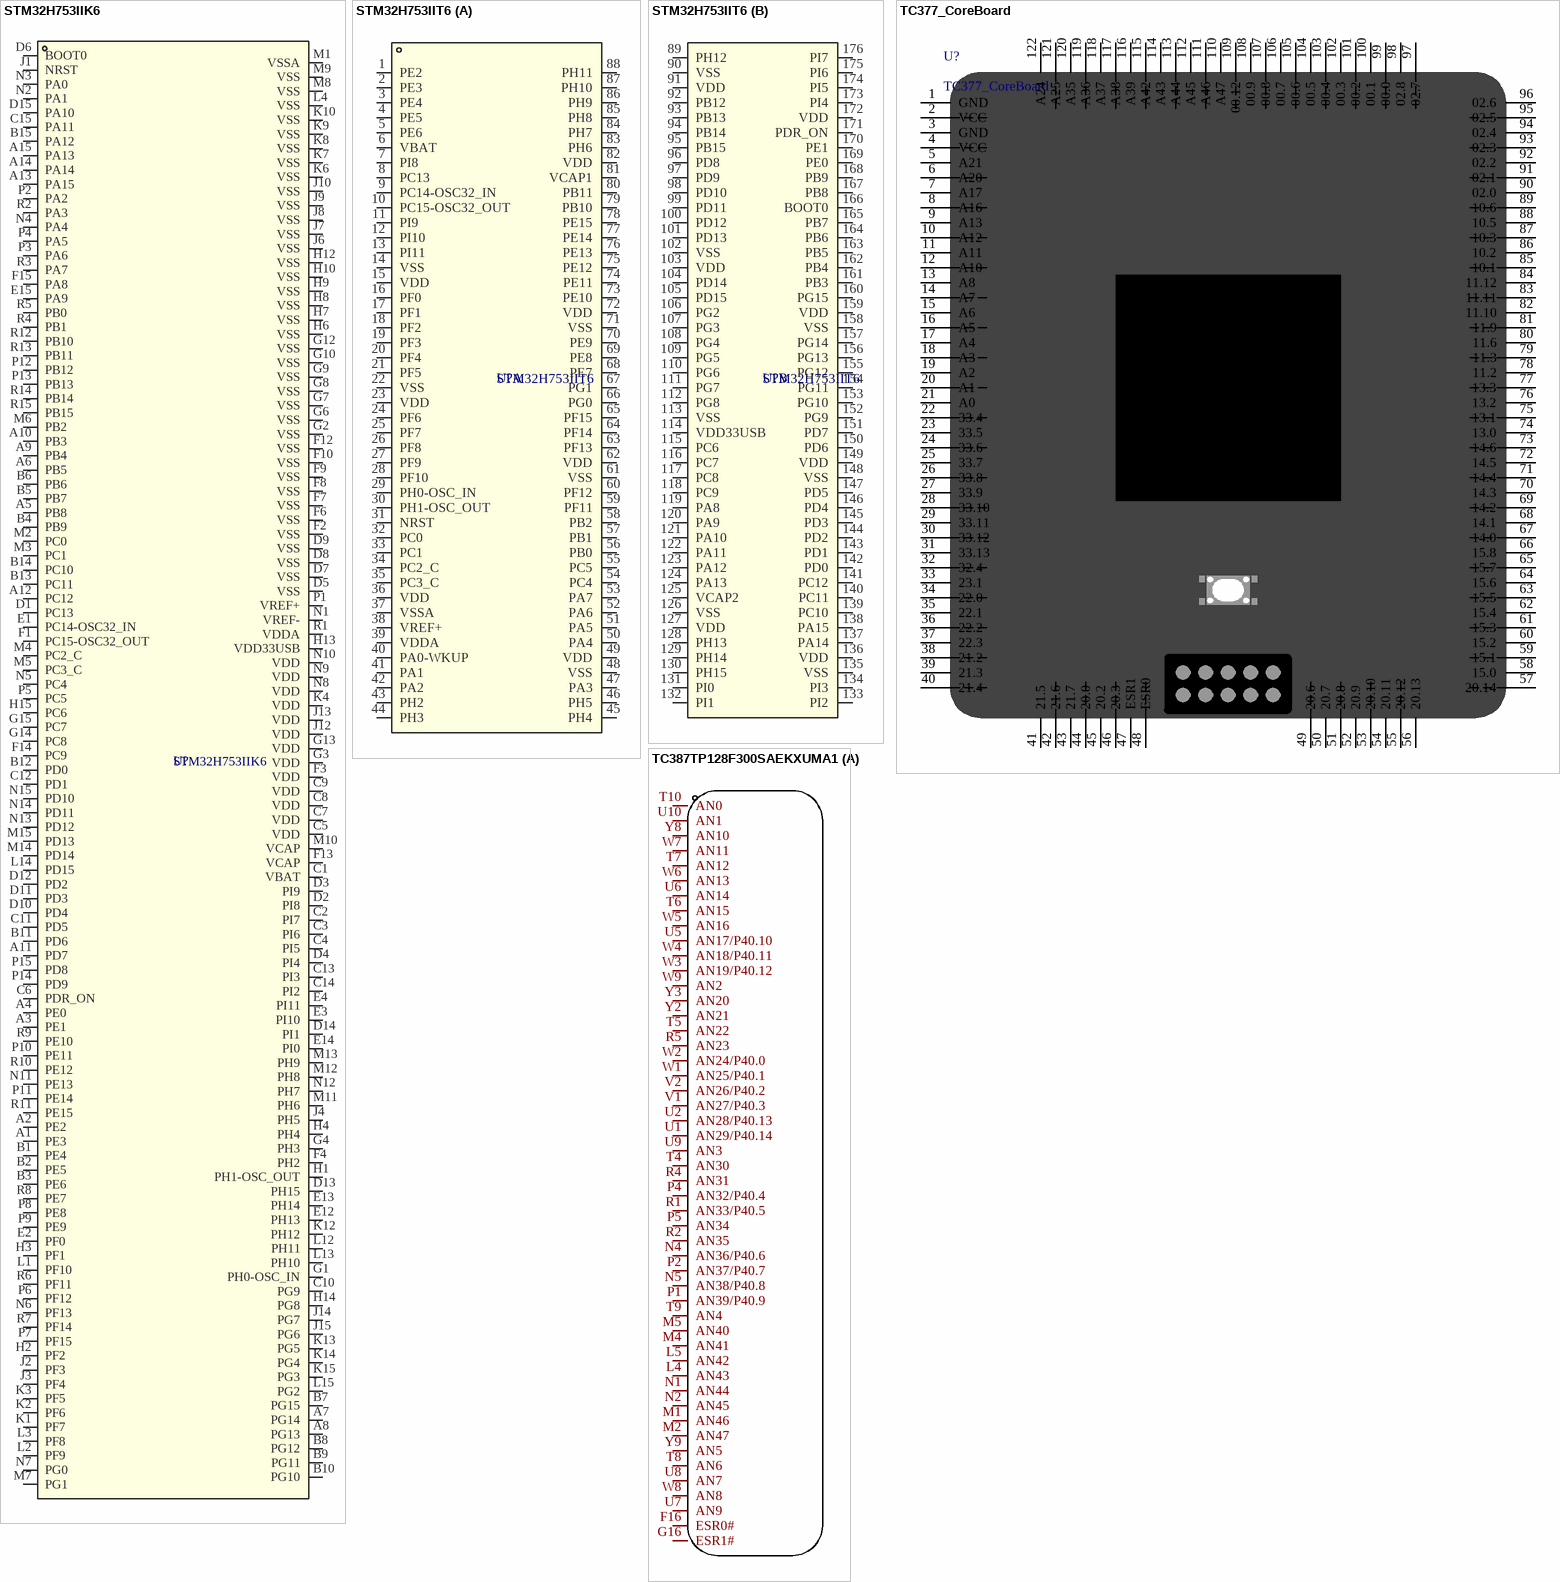
[diagram p3: symbols STM32H753IIK6 to TC387TP128F300SAEKXUMA1]

## STM32H753IIK6
designator U?
CPU内核:ARM Cortex-M7;CPU最大主频:480MHz;CPU位数:32 Bit;; Manufacturer: ST(意法半导体); SEEX_AUTHOR: ref42; SEEX_COMPONENT_ID: C730205; ADC (Bit): 16bit; CPU Maximum Speed: 480MHz; Core Size: 32 Bit; DAC (Bit): 12bit; Number of I/O: 140; Oscillator Type: 内置; Program Memory Type: FLASH; Program Storage Size: 2MB; RAM Size: 1MB; Voltage - Supply: 1.62V~3.6V; SEEX_PROJECT_URL: https://github.com/ref42/seex; Footprint: UFBGA-201_L10.0-W10.0-P0.65-TL_STM32H743IIK6; CPU Core: ARM Cortex-M7; Datasheet: https://item.szlcsc.com/datasheet/STM32H753IIK6/778160.html; JLCPCB Part Class: Extended Part; LCSC Part Name: 带DSP和DP-FPU的高性能ARM Cortex-M7 MCU，具有2 MB Flash、1 MB RAM、480 MHz CPU、ART加速器、一级缓存、外部存储器接口、包括加密加速器在内的大量外设以及安全服务支持; Manufacturer Part: STM32H753IIK6; Operating Temperature: -40℃~+85℃; Supplier: LCSC; Supplier Footprint: UFBGA-176; Supplier Part: C730205
footprint UFBGA-201_L10.0-W10.0-P0.65-TL_STM32H743IIK6 (UFBGA-201; BGA-176(10x10); -; BGA-176)
pins: A1 PE3, A2 PE2, A3 PE1, A4 PE0, A5 PB8, A6 PB5, A7 PG14, A8 PG13, A9 PB4, A10 PB3, A11 PD7, A12 PC12, A13 PA15, A14 PA14, A15 PA13, B1 PE4, B2 PE5, B3 PE6, B4 PB9, B5 PB7, B6 PB6, B7 PG15, B8 PG12, B9 PG11, B10 PG10, B11 PD6, B12 PD0, B13 PC11, B14 PC10, B15 PA12, C1 VBAT, C2 PI7, C3 PI6, C4 PI5, C5 VDD, C6 PDR_ON, C7 VDD, C8 VDD, C9 VDD, C10 PG9, C11 PD5, C12 PD1, C13 PI3, C14 PI2, C15 PA11, D1 PC13, D2 PI8, D3 PI9, D4 PI4, D5 VSS, D6 BOOT0, D7 VSS, D8 VSS, D9 VSS, D10 PD4, D11 PD3, D12 PD2, D13 PH15, D14 PI1, D15 PA10, E1 PC14-OSC32_IN, E2 PF0, E3 PI10, E4 PI11, E12 PH13, E13 PH14, E14 PI0, E15 PA9, F1 PC15-OSC32_OUT, F2 VSS, F3 VDD, F4 PH2, F6 VSS, F7 VSS, F8 VSS, F9 VSS, F10 VSS, F12 VSS, F13 VCAP, F14 PC9, F15 PA8, G1 PH0-OSC_IN, G2 VSS, G3 VDD, G4 PH3, G6 VSS, G7 VSS, G8 VSS, G9 VSS, G10 VSS, G12 VSS, G13 VDD, G14 PC8, G15 PC7, H1 PH1-OSC_OUT, H2 PF2, H3 PF1, H4 PH4, H6 VSS, H7 VSS, H8 VSS, H9 VSS, H10 VSS, H12 VSS, H13 VDD33USB, H14 PG8, H15 PC6, J1 NRST, J2 PF3, J3 PF4, J4 PH5, J6 VSS, J7 VSS, J8 VSS, J9 VSS, J10 VSS, J12 VDD, J13 VDD, J14 PG7, J15 PG6, K1 PF7, K2 PF6, K3 PF5, K4 VDD, K6 VSS, K7 VSS, K8 VSS, K9 VSS, K10 VSS, K12 PH12, K13 PG5, K14 PG4, K15 PG3, L1 PF10, L2 PF9, L3 PF8, L4 VSS, L12 PH11, L13 PH10, L14 PD15, L15 PG2, M1 VSSA, M2 PC0, M3 PC1, M4 PC2_C, M5 PC3_C, M6 PB2, M7 PG1, M8 VSS, M9 VSS, M10 VCAP, M11 PH6, M12 PH8, M13 PH9, M14 PD14, M15 PD13, N1 VREF-, N2 PA1, N3 PA0, N4 PA4, N5 PC4, N6 PF13, N7 PG0, N8 VDD, N9 VDD, N10 VDD, N11 PE13, N12 PH7, N13 PD12, N14 PD11, N15 PD10, P1 VREF+, P2 PA2, P3 PA6, P4 PA5, P5 PC5, P6 PF12, P7 PF15, P8 PE8, P9 PE9, P10 PE11, P11 PE14, P12 PB12, P13 PB13, P14 PD9, P15 PD8, R1 VDDA, R2 PA3, R3 PA7, R4 PB1, R5 PB0, R6 PF11, R7 PF14, R8 PE7, R9 PE10, R10 PE12, R11 PE15, R12 PB10, R13 PB11, R14 PB14, R15 PB15

## STM32H753IIT6
designator U?
CPU内核:ARM Cortex-M7;CPU最大主频:480MHz;CPU位数:32 Bit;; Manufacturer: ST(意法半导体); SEEX_AUTHOR: ref42; SEEX_COMPONENT_ID: C146558; ADC (Bit): 16bit; CPU Maximum Speed: 480MHz; Core Size: 32 Bit; DAC (Bit): 12bit; Number of I/O: 140; Oscillator Type: 内置; Program Memory Type: FLASH; Program Storage Size: 2MB; RAM Size: 1MB; Voltage - Supply: 1.62V~3.6V; SEEX_PROJECT_URL: https://github.com/ref42/seex; Footprint: LQFP-176_L24.0-W24.0-P0.50-BL; CPU Core: ARM Cortex-M7; Datasheet: https://item.szlcsc.com/datasheet/STM32H753IIT6/157890.html; JLCPCB Part Class: Extended Part; LCSC Part Name: 带DSP和DP-FPU的高性能ARM Cortex-M7 MCU，具有2 MB Flash、1 MB RAM、480 MHz CPU、ART加速器、一级缓存、外部存储器接口、包括加密加速器在内的大量外设以及安全服务支持; Manufacturer Part: STM32H753IIT6; Operating Temperature: -40℃~+85℃; Supplier: LCSC; Supplier Footprint: LQFP-176(24x24); Supplier Part: C146558
footprint LQFP-176_L24.0-W24.0-P0.50-BL (PCB footprint)
part A pins: 1 PE2, 2 PE3, 3 PE4, 4 PE5, 5 PE6, 6 VBAT, 7 PI8, 8 PC13, 9 PC14-OSC32_IN, 10 PC15-OSC32_OUT, 11 PI9, 12 PI10, 13 PI11, 14 VSS, 15 VDD, 16 PF0, 17 PF1, 18 PF2, 19 PF3, 20 PF4, 21 PF5, 22 VSS, 23 VDD, 24 PF6, 25 PF7, 26 PF8, 27 PF9, 28 PF10, 29 PH0-OSC_IN, 30 PH1-OSC_OUT, 31 NRST, 32 PC0, 33 PC1, 34 PC2_C, 35 PC3_C, 36 VDD, 37 VSSA, 38 VREF+, 39 VDDA, 40 PA0-WKUP, 41 PA1, 42 PA2, 43 PH2, 44 PH3, 45 PH4, 46 PH5, 47 PA3, 48 VSS, 49 VDD, 50 PA4, 51 PA5, 52 PA6, 53 PA7, 54 PC4, 55 PC5, 56 PB0, 57 PB1, 58 PB2, 59 PF11, 60 PF12, 61 VSS, 62 VDD, 63 PF13, 64 PF14, 65 PF15, 66 PG0, 67 PG1, 68 PE7, 69 PE8, 70 PE9, 71 VSS, 72 VDD, 73 PE10, 74 PE11, 75 PE12, 76 PE13, 77 PE14, 78 PE15, 79 PB10, 80 PB11, 81 VCAP1, 82 VDD, 83 PH6, 84 PH7, 85 PH8, 86 PH9, 87 PH10, 88 PH11
part B pins: 89 PH12, 90 VSS, 91 VDD, 92 PB12, 93 PB13, 94 PB14, 95 PB15, 96 PD8, 97 PD9, 98 PD10, 99 PD11, 100 PD12, 101 PD13, 102 VSS, 103 VDD, 104 PD14, 105 PD15, 106 PG2, 107 PG3, 108 PG4, 109 PG5, 110 PG6, 111 PG7, 112 PG8, 113 VSS, 114 VDD33USB, 115 PC6, 116 PC7, 117 PC8, 118 PC9, 119 PA8, 120 PA9, 121 PA10, 122 PA11, 123 PA12, 124 PA13, 125 VCAP2, 126 VSS, 127 VDD, 128 PH13, 129 PH14, 130 PH15, 131 PI0, 132 PI1, 133 PI2, 134 PI3, 135 VSS, 136 VDD, 137 PA14, 138 PA15, 139 PC10, 140 PC11, 141 PC12, 142 PD0, 143 PD1, 144 PD2, 145 PD3, 146 PD4, 147 PD5, 148 VSS, 149 VDD, 150 PD6, 151 PD7, 152 PG9, 153 PG10, 154 PG11, 155 PG12, 156 PG13, 157 PG14, 158 VSS, 159 VDD, 160 PG15, 161 PB3, 162 PB4, 163 PB5, 164 PB6, 165 PB7, 166 BOOT0, 167 PB8, 168 PB9, 169 PE0, 170 PE1, 171 PDR_ON, 172 VDD, 173 PI4, 174 PI5, 175 PI6, 176 PI7

## TC377_CoreBoard
designator U?
逐飞科技TC377核心板
footprint TC377_CoreBoard (Footprint not found)
pins: 1 GND, 2 VCC, 3 GND, 4 VCC, 5 A21, 6 A20, 7 A17, 8 A16, 9 A13, 10 A12, 11 A11, 12 A10, 13 A8, 14 A7, 15 A6, 16 A5, 17 A4, 18 A3, 19 A2, 20 A1, 21 A0, 22 33.4, 23 33.5, 24 33.6, 25 33.7, 26 33.8, 27 33.9, 28 33.10, 29 33.11, 30 33.12, 31 33.13, 32 32.4, 33 23.1, 34 22.0, 35 22.1, 36 22.2, 37 22.3, 38 21.2, 39 21.3, 40 21.4, 41 21.5, 42 21.6, 43 21.7, 44 20.0, 45 20.2, 46 20.3, 47 ESR1, 48 ESR0, 49 20.6, 50 20.7, 51 20.8, 52 20.9, 53 20.10, 54 20.11, 55 20.12, 56 20.13, 57 20.14, 58 15.0, 59 15.1, 60 15.2, 61 15.3, 62 15.4, 63 15.5, 64 15.6, 65 15.7, 66 15.8, 67 14.0, 68 14.1, 69 14.2, 70 14.3, 71 14.4, 72 14.5, 73 14.6, 74 13.0, 75 13.1, 76 13.2, 77 13.3, 78 11.2, 79 11.3, 80 11.6, 81 11.9, 82 11.10, 83 11.11, 84 11.12, 85 10.1, 86 10.2, 87 10.3, 88 10.5, 89 10.6, 90 02.0, 91 02.1, 92 02.2, 93 02.3, 94 02.4, 95 02.5, 96 02.6, 97 02.7, 98 02.8, 99 00.0, 100 00.1, 101 00.2, 102 00.3, 103 00.4, 104 00.5, 105 00.6, 106 00.7, 107 00.8, 108 00.9, 109 00.12, 110 A47, 111 A46, 112 A45, 113 A44, 114 A43, 115 A42, 116 A39, 117 A38, 118 A37, 119 A36, 120 A35, 121 A25, 122 A24

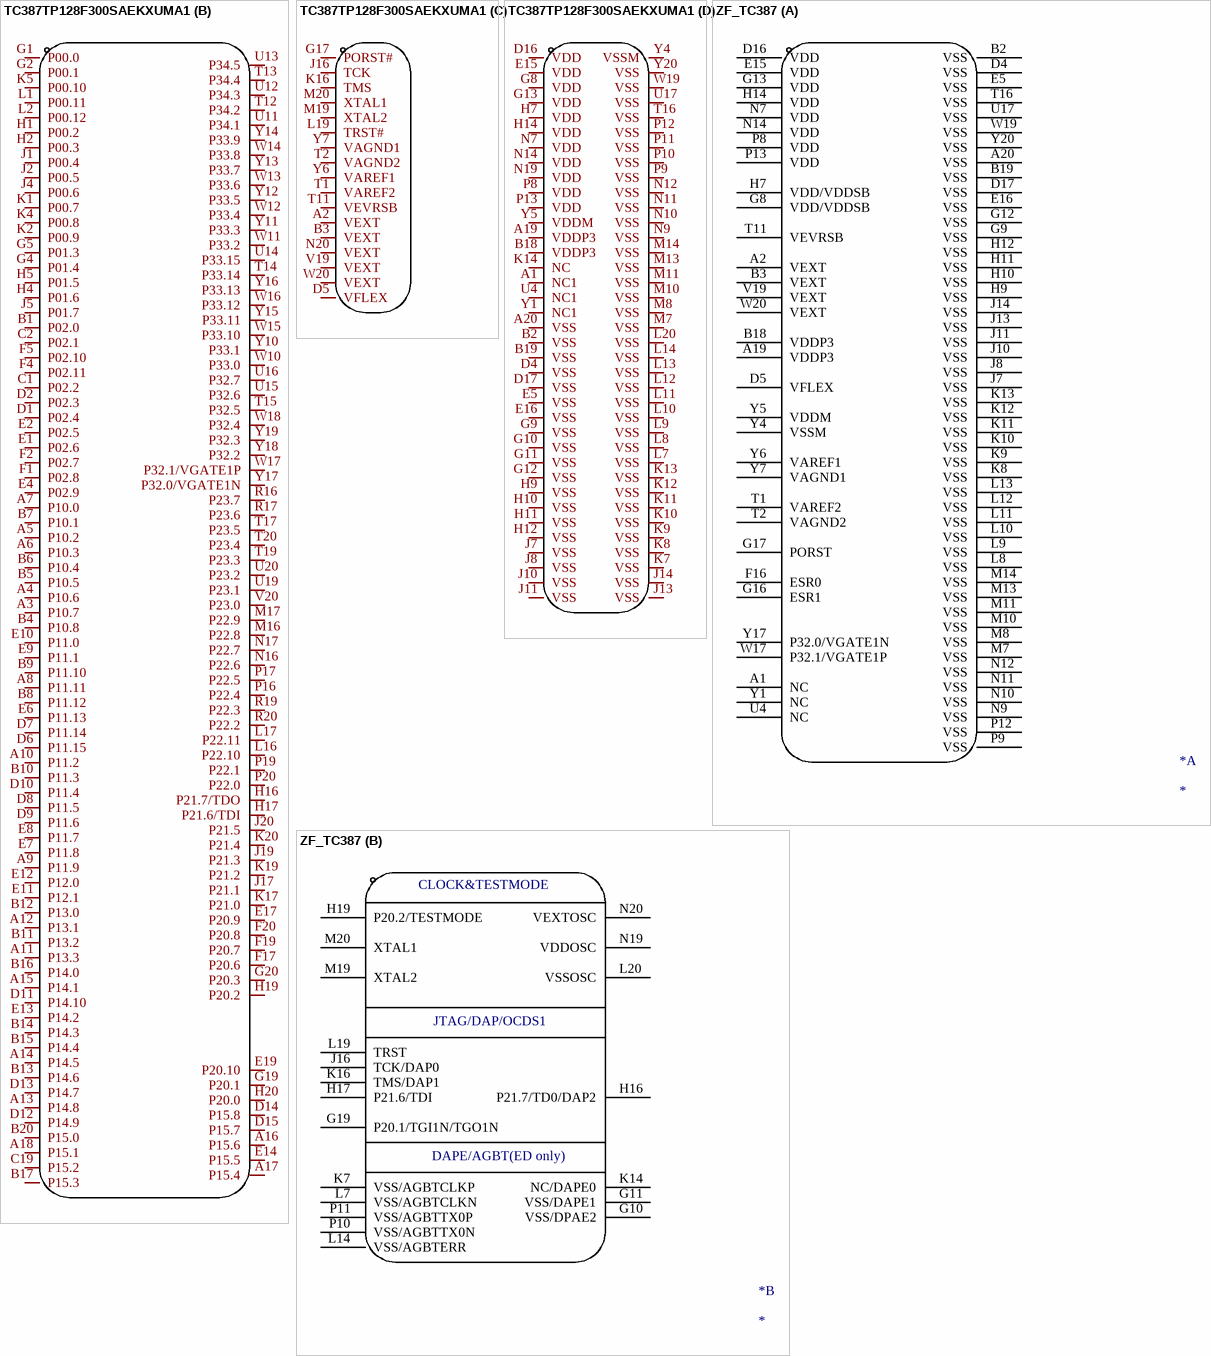
[diagram p4: symbols TC387TP128F300SAEKXUMA1 to ZF_TC387]

## TC387TP128F300SAEKXUMA1
designator U??  (value not drawn)
Manufacturer: Infineon(英飞凌); Add into BOM: yes; CPU Core: 其他系列; CPU Maximum Speed: 300MHz; Operating Voltage Range: 2.97V~5.5V; Program Storage Size: 8MB; Watchdog: 有; Name: TC387TP128F300SAEKXUMA1; Symbol: TC387TP128F300SAEKXUMA1; Device: TC387TP128F300SAEKXUMA1; LCSC Part Name: TC387TP128F300SAEKXUMA1; Supplier Part: C3232066; Manufacturer Part: TC387TP128F300SAEKXUMA1; Supplier Footprint: LFBGA-292-11; Supplier: LCSC; Convert to PCB: yes; Direct Memory Access: 有; Internal Oscillator: 有; Operating Temperature Range: -40℃~+125℃
footprint PG-LFBGA-292_L17.0-W17.0-BL_SAL-TC397XP
3D model PG-LFBGA-292_L17.0-W17.0-BL_SAL-TC397XP
part A pins: F16 ESR0#, G16 ESR1#, L4 AN43, L5 AN42, M1 AN46, M2 AN47, M4 AN41, M5 AN40, N1 AN44, N2 AN45, N4 AN36/P40.6, N5 AN38/P40.8, P1 AN39/P40.9, P2 AN37/P40.7, P4 AN32/P40.4, P5 AN34, R1 AN33/P40.5, R2 AN35, R4 AN31, R5 AN23, T4 AN30, T5 AN22, T6 AN15, T7 AN12, T8 AN6, T9 AN4, T10 AN0, U1 AN29/P40.14, U2 AN28/P40.13, U5 AN17/P40.10, U6 AN14, U7 AN9, U8 AN7, U9 AN3, U10 AN1, V1 AN27/P40.3, V2 AN26/P40.2, W1 AN25/P40.1, W2 AN24/P40.0, W3 AN19/P40.12, W4 AN18/P40.11, W5 AN16, W6 AN13, W7 AN11, W8 AN8, W9 AN2, Y2 AN21, Y3 AN20, Y8 AN10, Y9 AN5
part B pins: A3 P10.7, A4 P10.6, A5 P10.2, A6 P10.3, A7 P10.0, A8 P11.11, A9 P11.9, A10 P11.2, A11 P13.3, A12 P13.1, A13 P14.8, A14 P14.5, A15 P14.1, A16 P15.6, A17 P15.4, A18 P15.1, B1 P02.0, B4 P10.8, B5 P10.5, B6 P10.4, B7 P10.1, B8 P11.12, B9 P11.10, B10 P11.3, B11 P13.2, B12 P13.0, B13 P14.6, B14 P14.3, B15 P14.4, B16 P14.0, B17 P15.3, B20 P15.0, C1 P02.2, C2 P02.1, C19 P15.2, C20 P20.14 hidden, D1 P02.4, D2 P02.3, D6 P11.15, D7 P11.14, D8 P11.5, D9 P11.6, D10 P11.4, D11 P14.10, D12 P14.9, D13 P14.7, D14 P15.8, D15 P15.7, D19 P20.12 hidden, D20 P20.13 hidden, E1 P02.6, E2 P02.5, E4 P02.9, E6 P11.13, E7 P11.8, E8 P11.7, E9 P11.1, E10 P11.0, E11 P12.1, E12 P12.0, E13 P14.2, E14 P15.5, E17 P20.9, E19 P20.10, E20 P20.11 hidden, F1 P02.8, F2 P02.7, F4 P02.11, F5 P02.10, F17 P20.6, F19 P20.7, F20 P20.8, G1 P00.0, G2 P00.1, G4 P01.4, G5 P01.3, G19 P20.1, G20 P20.3, H1 P00.2, H2 P00.3, H4 P01.6, H5 P01.5, H16 P21.7/TDO, H17 P21.6/TDI, H19 P20.2, H20 P20.0, J1 P00.4, J2 P00.5, J4 P00.6, J5 P01.7, J17 P21.1, J19 P21.3, J20 P21.5, K1 P00.7, K2 P00.9, K4 P00.8, K5 P00.10, K17 P21.0, K19 P21.2, K20 P21.4, L1 P00.11, L2 P00.12, L16 P22.10, L17 P22.11, M16 P22.8, M17 P22.9, N16 P22.6, N17 P22.7, P16 P22.4, P17 P22.5, P19 P22.1, P20 P22.0, R16 P23.7, R17 P23.6, R19 P22.3, R20 P22.2, T12 P34.2, T13 P34.4, T14 P33.14, T15 P32.5, T17 P23.5, T19 P23.3, T20 P23.4, U11 P34.1, U12 P34.3, U13 P34.5, U14 P33.15, U15 P32.6, U16 P32.7, U19 P23.1, U20 P23.2, V20 P23.0, W10 P33.0, W11 P33.2, W12 P33.4, W13 P33.6, W14 P33.8, W15 P33.10, W16 P33.12, W17 P32.1/VGATE1P, W18 P32.4, Y10 P33.1, Y11 P33.3, Y12 P33.5, Y13 P33.7, Y14 P33.9, Y15 P33.11, Y16 P33.13, Y17 P32.0/VGATE1N, Y18 P32.2, Y19 P32.3
part C pins: A2 VEXT, B3 VEXT, D5 VFLEX, G17 PORST#, J16 TCK, K16 TMS, L19 TRST#, M19 XTAL2, M20 XTAL1, N20 VEXT, T1 VAREF2, T2 VAGND2, T11 VEVRSB, V19 VEXT, W20 VEXT, Y6 VAREF1, Y7 VAGND1
part D pins: A1 NC1, A19 VDDP3, A20 VSS, B2 VSS, B18 VDDP3, B19 VSS, D4 VSS, D16 VDD, D17 VSS, E5 VSS, E15 VDD, E16 VSS, G8 VDD, G9 VSS, G10 VSS, G11 VSS, G12 VSS, G13 VDD, H7 VDD, H9 VSS, H10 VSS, H11 VSS, H12 VSS, H14 VDD, J7 VSS, J8 VSS, J10 VSS, J11 VSS, J13 VSS, J14 VSS, K7 VSS, K8 VSS, K9 VSS, K10 VSS, K11 VSS, K12 VSS, K13 VSS, K14 NC, L7 VSS, L8 VSS, L9 VSS, L10 VSS, L11 VSS, L12 VSS, L13 VSS, L14 VSS, L20 VSS, M7 VSS, M8 VSS, M10 VSS, M11 VSS, M13 VSS, M14 VSS, N7 VDD, N9 VSS, N10 VSS, N11 VSS, N12 VSS, N14 VDD, N19 VDD, P8 VDD, P9 VSS, P10 VSS, P11 VSS, P12 VSS, P13 VDD, T16 VSS, U4 NC1, U17 VSS, W19 VSS, Y1 NC1, Y4 VSSM, Y5 VDDM, Y20 VSS

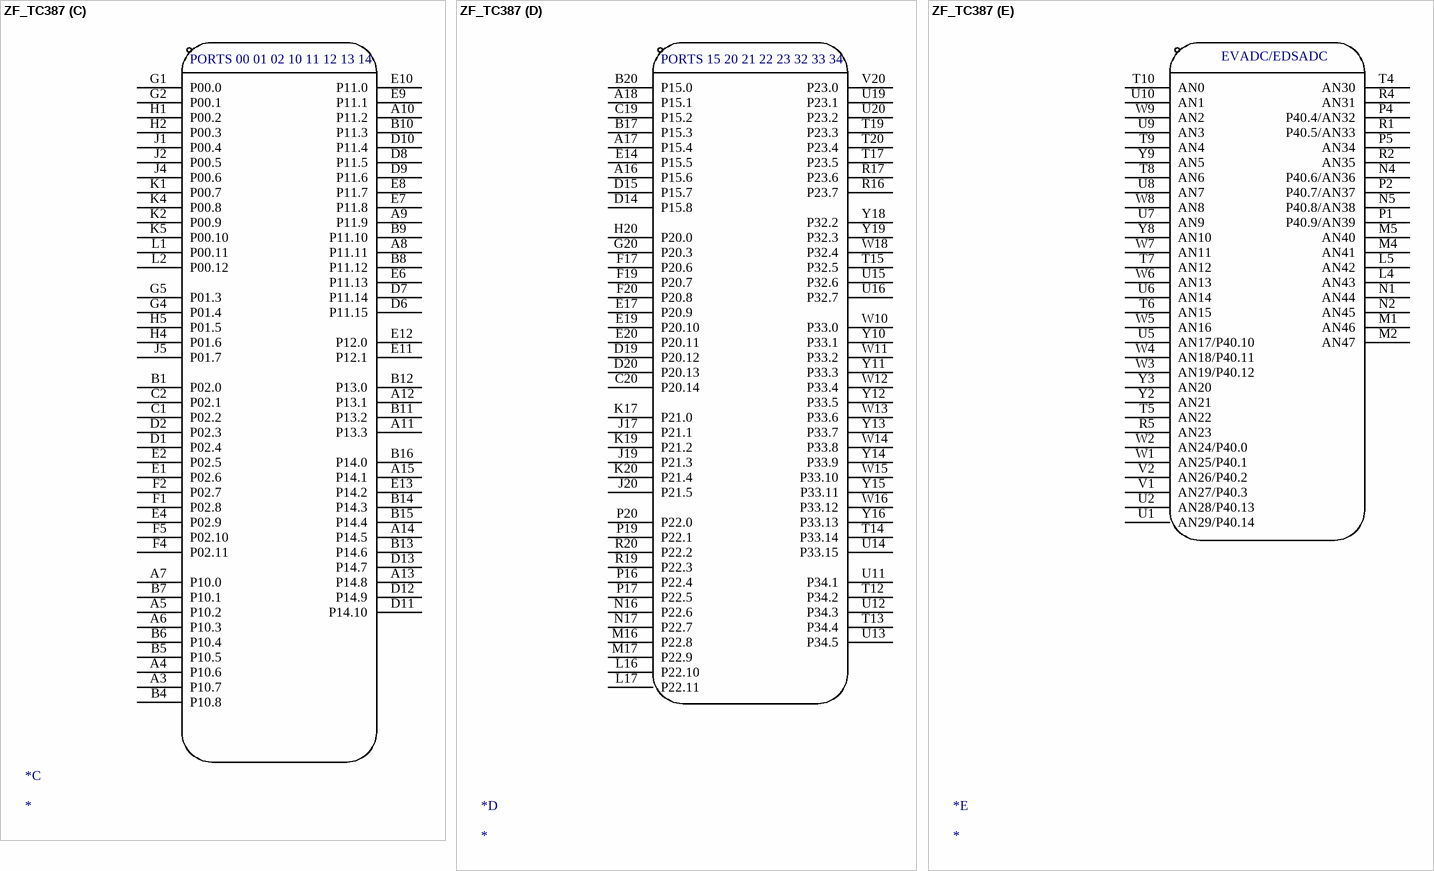
[diagram p5: symbol ZF_TC387]

## ZF_TC387
designator *
footprint PG-LFBGA-292_L17.0-W17.0-BL_SAL-TC397XP
part A pins: A1 NC, A2 VEXT, A19 VDDP3, A20 VSS, B2 VSS, B3 VEXT, B18 VDDP3, B19 VSS, D4 VSS, D5 VFLEX, D16 VDD, D17 VSS, E5 VSS, E15 VDD, E16 VSS, F16 ESR0, G8 VDD/VDDSB, G9 VSS, G12 VSS, G13 VDD, G16 ESR1, G17 PORST, H7 VDD/VDDSB, H9 VSS, H10 VSS, H11 VSS, H12 VSS, H14 VDD, J7 VSS, J8 VSS, J10 VSS, J11 VSS, J13 VSS, J14 VSS, K8 VSS, K9 VSS, K10 VSS, K11 VSS, K12 VSS, K13 VSS, L8 VSS, L9 VSS, L10 VSS, L11 VSS, L12 VSS, L13 VSS, M7 VSS, M8 VSS, M10 VSS, M11 VSS, M13 VSS, M14 VSS, N7 VDD, N9 VSS, N10 VSS, N11 VSS, N12 VSS, N14 VDD, P8 VDD, P9 VSS, P12 VSS, P13 VDD, T1 VAREF2, T2 VAGND2, T11 VEVRSB, T16 VSS, U4 NC, U17 VSS, V19 VEXT, W17 P32.1/VGATE1P, W19 VSS, W20 VEXT, Y1 NC, Y4 VSSM, Y5 VDDM, Y6 VAREF1, Y7 VAGND1, Y17 P32.0/VGATE1N, Y20 VSS
part B pins: G10 VSS/DPAE2, G11 VSS/DAPE1, G19 P20.1/TGI1N/TGO1N, H16 P21.7/TD0/DAP2, H17 P21.6/TDI, H19 P20.2/TESTMODE, J16 TCK/DAP0, K7 VSS/AGBTCLKP, K14 NC/DAPE0, K16 TMS/DAP1, L7 VSS/AGBTCLKN, L14 VSS/AGBTERR, L19 TRST, L20 VSSOSC, M19 XTAL2, M20 XTAL1, N19 VDDOSC, N20 VEXTOSC, P10 VSS/AGBTTX0N, P11 VSS/AGBTTX0P
part C pins: A3 P10.7, A4 P10.6, A5 P10.2, A6 P10.3, A7 P10.0, A8 P11.11, A9 P11.9, A10 P11.2, A11 P13.3, A12 P13.1, A13 P14.8, A14 P14.5, A15 P14.1, B1 P02.0, B4 P10.8, B5 P10.5, B6 P10.4, B7 P10.1, B8 P11.12, B9 P11.10, B10 P11.3, B11 P13.2, B12 P13.0, B13 P14.6, B14 P14.3, B15 P14.4, B16 P14.0, C1 P02.2, C2 P02.1, D1 P02.4, D2 P02.3, D6 P11.15, D7 P11.14, D8 P11.5, D9 P11.6, D10 P11.4, D11 P14.10, D12 P14.9, D13 P14.7, E1 P02.6, E2 P02.5, E4 P02.9, E6 P11.13, E7 P11.8, E8 P11.7, E9 P11.1, E10 P11.0, E11 P12.1, E12 P12.0, E13 P14.2, F1 P02.8, F2 P02.7, F4 P02.11, F5 P02.10, G1 P00.0, G2 P00.1, G4 P01.4, G5 P01.3, H1 P00.2, H2 P00.3, H4 P01.6, H5 P01.5, J1 P00.4, J2 P00.5, J4 P00.6, J5 P01.7, K1 P00.7, K2 P00.9, K4 P00.8, K5 P00.10, L1 P00.11, L2 P00.12
part D pins: A16 P15.6, A17 P15.4, A18 P15.1, B17 P15.3, B20 P15.0, C19 P15.2, C20 P20.14, D14 P15.8, D15 P15.7, D19 P20.12, D20 P20.13, E14 P15.5, E17 P20.9, E19 P20.10, E20 P20.11, F17 P20.6, F19 P20.7, F20 P20.8, G20 P20.3, H20 P20.0, J17 P21.1, J19 P21.3, J20 P21.5, K17 P21.0, K19 P21.2, K20 P21.4, L16 P22.10, L17 P22.11, M16 P22.8, M17 P22.9, N16 P22.6, N17 P22.7, P16 P22.4, P17 P22.5, P19 P22.1, P20 P22.0, R16 P23.7, R17 P23.6, R19 P22.3, R20 P22.2, T12 P34.2, T13 P34.4, T14 P33.14, T15 P32.5, T17 P23.5, T19 P23.3, T20 P23.4, U11 P34.1, U12 P34.3, U13 P34.5, U14 P33.15, U15 P32.6, U16 P32.7, U19 P23.1, U20 P23.2, V20 P23.0, W10 P33.0, W11 P33.2, W12 P33.4, W13 P33.6, W14 P33.8, W15 P33.10, W16 P33.12, W18 P32.4, Y10 P33.1, Y11 P33.3, Y12 P33.5, Y13 P33.7, Y14 P33.9, Y15 P33.11, Y16 P33.13, Y18 P32.2, Y19 P32.3
part E pins: L4 AN43, L5 AN42, M1 AN46, M2 AN47, M4 AN41, M5 AN40, N1 AN44, N2 AN45, N4 P40.6/AN36, N5 P40.8/AN38, P1 P40.9/AN39, P2 P40.7/AN37, P4 P40.4/AN32, P5 AN34, R1 P40.5/AN33, R2 AN35, R4 AN31, R5 AN23, T4 AN30, T5 AN22, T6 AN15, T7 AN12, T8 AN6, T9 AN4, T10 AN0, U1 AN29/P40.14, U2 AN28/P40.13, U5 AN17/P40.10, U6 AN14, U7 AN9, U8 AN7, U9 AN3, U10 AN1, V1 AN27/P40.3, V2 AN26/P40.2, W1 AN25/P40.1, W2 AN24/P40.0, W3 AN19/P40.12, W4 AN18/P40.11, W5 AN16, W6 AN13, W7 AN11, W8 AN8, W9 AN2, Y2 AN21, Y3 AN20, Y8 AN10, Y9 AN5
part B text: CLOCK&TESTMODE; JTAG/DAP/OCDS1; DAPE/AGBT(ED only)
part C text: PORTS 00 01 02 10 11 12 13 14
part D text: PORTS 15 20 21 22 23 32 33 34
part E text: EVADC/EDSADC